# Altium footprint library GRC PCB library.PcbLib: 166 footprints (part 7 of 11)
Each footprint in its own frame and in the unit in brackets; x right, y up, seen from the top. Pads: shape width x height; smd on the part's side, far side on the other; paste and mask are expansions set on the pad; w line width, h text height; cw(c..) or ccw(c..) is an arc to the next point about the centre after c.
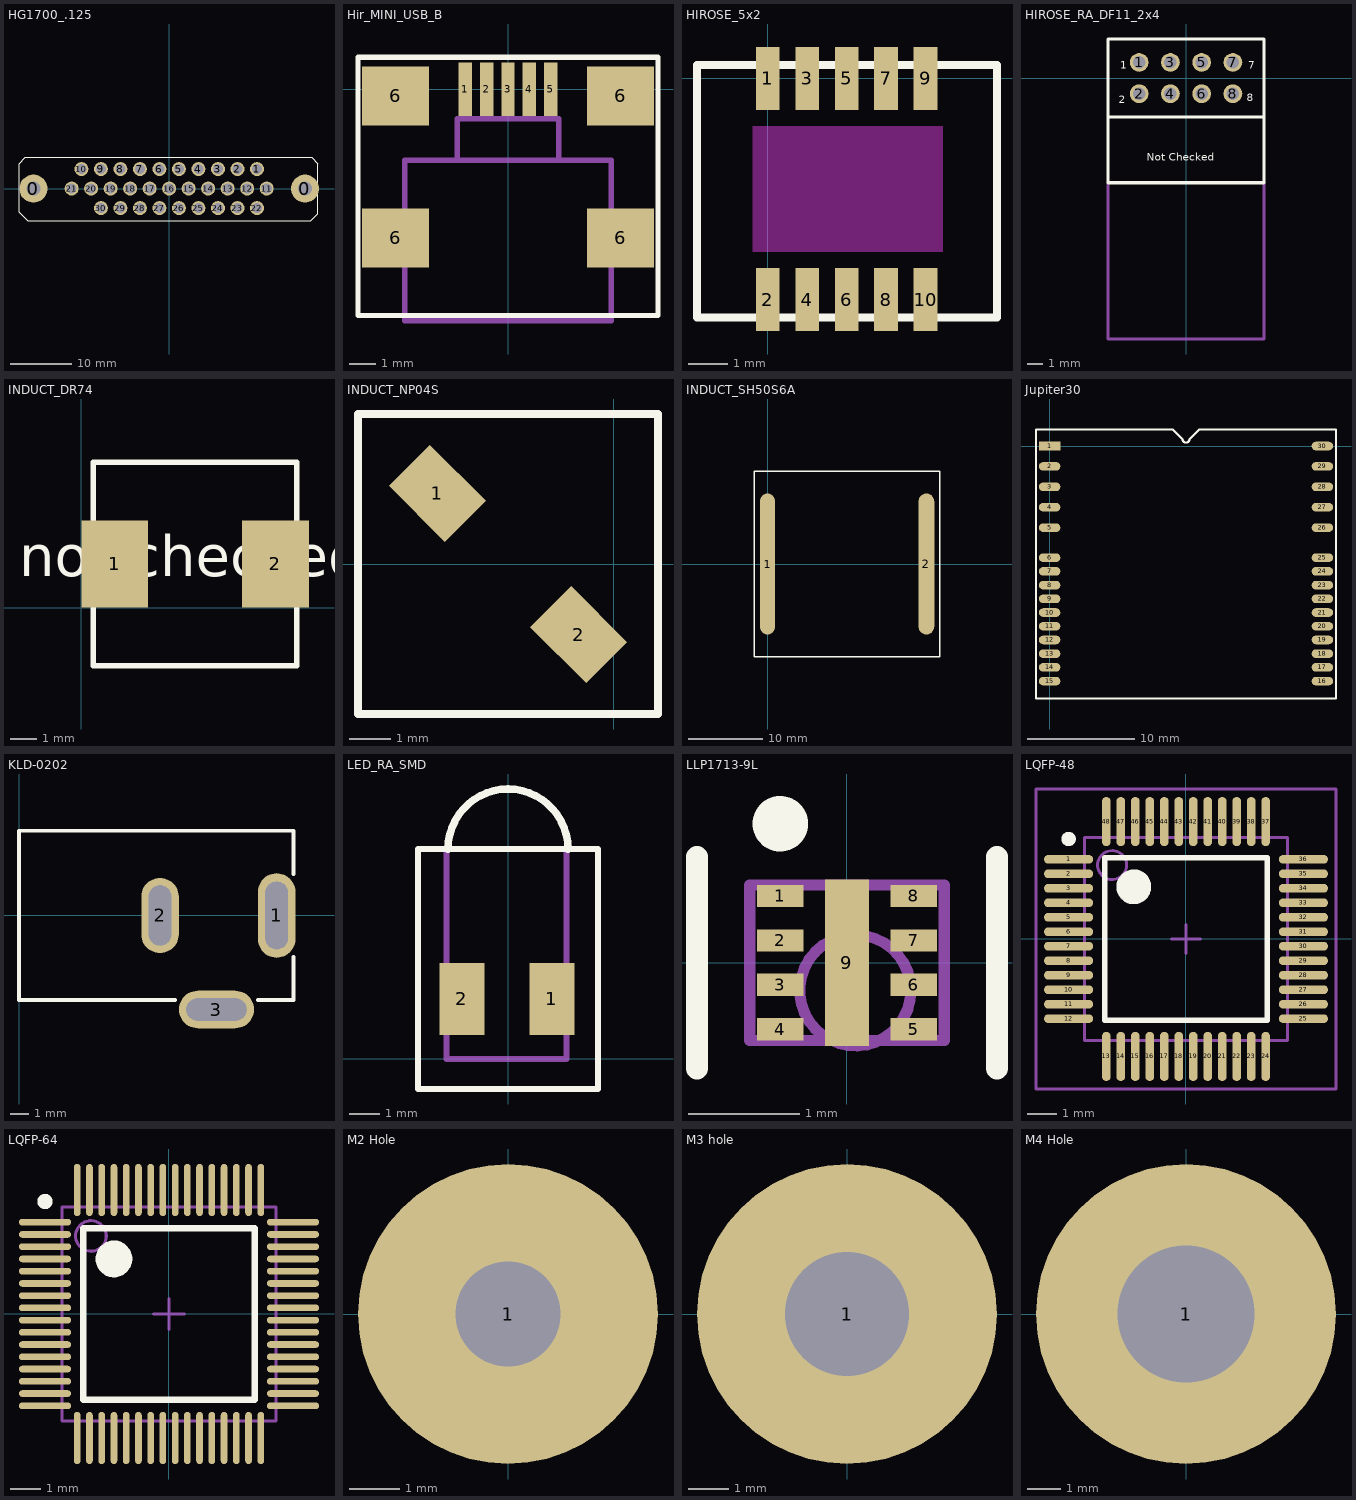
[diagram p6: the footprints below, top view; thin cyan lines are the x and y axes]

## HG1700_.125 [mil] "HoneyWell Connector"
height 219
pads (32):
  round 180 hole 90 unplated: 0(-870,0) 0(870,0)
  round 90 hole 65: 1(562.5,125) 2(437.5,125) 3(312.5,125) 4(187.5,125) 5(62.5,125) 6(-62.5,125) 7(-187.5,125) 8(-312.5,125) 9(-437.5,125) 10(-562.5,125) 11(625,0) 12(500,0) 13(375,0) 14(250,0) 15(125,0) 16(0,0) 17(-125,0) 18(-250,0) 19(-375,0) 20(-500,0) 21(-625,0) 22(562.5,-125) 23(437.5,-125) 24(312.5,-125) 25(187.5,-125) 26(62.5,-125) 27(-62.5,-125) 28(-187.5,-125) 29(-312.5,-125) 30(-437.5,-125)
Top Overlay:
  lines w7.87: -962.5,-150 -907.5,-205 907.5,-205 952.5,-160 952.5,160 912.5,200 -922.5,200 -962.5,160 -962.5,0 -962.5,-150

## Hir_MINI_USB_B [mm] "Mini-USB Receptacle Type B - Metal Shield - SMT - With Positioning Post"
height 3.95
pads (9):
  rect 0.5x2 smd: 1(-1.6,0) 2(-0.8,0) 3(0,0) 4(0.8,0) 5(1.6,0)
  rect 2.5x2.2 smd: 6(-4.2,-5.55) 6(-4.2,-0.25) 6(4.2,-5.55) 6(4.2,-0.25)
Top Overlay:
  lines w0.2: -5.6,-8.45 -5.6,1.2 5.6,1.2 5.6,-8.45 -5.6,-8.45
Mechanical 13:
  lines w0.2: -1.9,-2.65 -1.9,-1.1 1.9,-1.1 1.9,-2.65 ; -3.85,-8.65 -3.85,-2.65 3.85,-2.65 3.85,-8.65 -3.85,-8.65

## HIROSE_5x2 [mm] "Hirose Double Row Straight Pin header SMT 5x2 1mm pitch"
height 4.6
pads (10):
  rect 0.6x1.6 smd: 1(0,0) 2(0,-5.6) 3(1,0) 4(1,-5.6) 5(2,0) 6(2,-5.6) 7(3,0) 8(3,-5.6) 9(4,0) 10(4,-5.6)
Top Overlay:
  lines w0.2: -1.79,-6.056 -1.79,0.344 5.81,0.344 5.81,-6.056 -1.79,-6.056
Keep-Out Layer:
  rectangle: -0.381,-4.4 4.445,-1.2

## HIROSE_RA_DF11_2x4 [mm] "Hirose Right Angle, 2mm, 2x4 pins"
height 5
pads (8):
  round 1.2 hole 0.8: 1(-3,1) 2(-3,-1) 3(-1,1) 4(-1,-1) 5(1,1) 6(1,-1) 7(3,1) 8(3,-1)
Top Overlay:
  lines w0.2: -5,-2.5 -5,0 -5,2.5 5,2.5 ; -5,-2.5 5,-2.5 ; -5,-2.5 -5,-6.7 5,-6.7 5,-2.5 ; 5,-2.5 5,0 5,2.5 ; 5,-2.5 5,2.5
  text "Not Checked" at -2.5,-5.3 h0.5
  text "1" at -4.2,0.6 h0.5
  text "2" at -4.3,-1.6 h0.5
  text "8" at 3.9,-1.5 h0.5
  text "7" at 4,0.6 h0.5
Mechanical 13:
  lines w0.2: -5,-6.7 -5,-16.7 5,-16.7 5,-6.7

## INDUCT_DR74 [mm] "Coiltronics DR74 series SMD inductor"
height 4.35
pads (2):
  rect 2.5x3.25 smd: 1(1.25,1.625) 2(7.25,1.625)
Top Overlay:
  lines w0.2: 0.45,-2.175 8.05,-2.175 8.05,5.425 0.45,5.425 0.45,-2.175
  text "not checked" at -2.325,1.175 h1.52

## INDUCT_NP04S [mm] "Tayo-Yuden Inductor NP04S series"
height 2
pads (2):
  rect 1.9x1.4 smd rot 135: 1(-4.237,1.697) 2(-0.843,-1.697)
Top Overlay:
  lines w0.2: -6.14,3.59 -6.14,-3.6 1.06,-3.6 ; -6.14,3.6 1.05,3.6 ; 1.06,-3.59 1.06,3.6

## INDUCT_SH50S6A [mm] "Talema SH50 Series Package S6A SMD inductor"
height 11.3
pads (2):
  oval 2x19 smd: 1(0,0)
  oval 2.1x19 smd: 2(21.4,0)
Top Overlay:
  lines w0.2: -1.8,-12.5 -1.8,12.5 23.2,12.5 23.2,-12.5 -1.8,-12.5

## Jupiter30 [mm] "GPS SiRF3 receiver"
height 3.3
pads (30):
  rect 2x0.8 smd: 1(0,0)
  oval 2x0.8 smd: 2(0,-1.9) 3(0,-3.8) 4(0,-5.7) 5(0,-7.6) 6(0,-10.4) 7(0,-11.677) 8(0,-12.954) 9(0,-14.231) 10(0,-15.508) 11(0,-16.785) 12(0,-18.062) 13(0,-19.339) 14(0,-20.616) 15(0,-21.893) 16(25.4,-21.893) 17(25.4,-20.616) 18(25.4,-19.339) 19(25.4,-18.062) 20(25.4,-16.785) 21(25.4,-15.508) 22(25.4,-14.231) 23(25.4,-12.954) 24(25.4,-11.677) 25(25.4,-10.4) 26(25.4,-7.6) 27(25.4,-5.7) 28(25.4,-3.8) 29(25.4,-1.9) 30(25.4,0)
Top Overlay:
  lines w0.2: -1.27,-23.5 26.67,-23.5 26.67,1.524 13.905,1.524 13.019,0.639 cw(c12.7,0.639) 12.381,0.639 11.495,1.524 -1.27,1.524 -1.27,-23.5

## KLD-0202 [mm] "DC Power Jack, 2.5mm, KLD Series, PCB Mount"
pads (3):
  oval 2x4.5 hole 1.2 slot 3.6 at 90 deg: 1(13.7,0)
  oval 2x4 hole 1.2 slot 3.2 at 90 deg: 2(7.5,0)
  oval 4x2 hole 1.2 slot 3.2 at 0 deg: 3(10.5,-5)
Top Overlay:
  lines w0.2: 8.3,-4.5 0,-4.5 0,4.5 14.6,4.5 14.6,2.2 ; 12.7,-4.5 14.6,-4.5 14.6,-2.2

## LED_RA_SMD [mm] "LED SMD Righ Angle Lumex SSF-LHX series"
height 5.5
pads (2):
  rect 1.5x2.4 smd: 1(1.46,2) 2(-1.54,2)
Top Overlay:
  lines w0.2: -3,-1 -3,7 3,7 3,-1 -3,-1
  lines w0.254: -2,7 cw(c0,7) 0,9 cw(c0,7) 2,7
Mechanical 13:
  lines w0.2: -2.05,0 -2.05,7 1.95,7 1.95,0 -2.05,0

## LLP1713-9L [mm] "LLP1713-9L"
height 0.6
pads (9):
  rect 0.42x0.2 smd: 1(-0.6,0.6) 2(-0.6,0.2) 3(-0.6,-0.2) 4(-0.6,-0.6) 5(0.6,-0.6) 6(0.6,-0.2) 7(0.6,0.2) 8(0.6,0.6)
  rect 0.4x1.5 smd: 9(0,0)
Top Overlay:
  circle w0.25: c-0.6,1.25 r0.125
  lines w0.2: -1.35,-0.95 -1.35,0.95 ; 1.35,-0.95 1.35,0.95
Mechanical 13:
  circle w0.1: c0.075,-0.25 r0.5
  lines w0.1: -0.875,-0.7 -0.875,0.7 0.875,0.7 0.875,-0.7 -0.875,-0.7
3D body: height 0.6, standoff 0, extent -0.875,-0.7 0.875,0.7

## LQFP-48 [mm] "TSQFP, 48-Leads, Body 9.1x9.1mm (max), Pitch 0.50mm, IPC Medium Density"
height 1.6
pads (48):
  oval 1.7x0.3 smd: 1(-4.05,2.75) 2(-4.05,2.25) 3(-4.05,1.75) 4(-4.05,1.25) 5(-4.05,0.75) 6(-4.05,0.25) 7(-4.05,-0.25) 8(-4.05,-0.75) 9(-4.05,-1.25) 10(-4.05,-1.75) 11(-4.05,-2.25) 12(-4.05,-2.75) 25(4.05,-2.75) 26(4.05,-2.25) 27(4.05,-1.75) 28(4.05,-1.25) 29(4.05,-0.75) 30(4.05,-0.25) 31(4.05,0.25) 32(4.05,0.75) 33(4.05,1.25) 34(4.05,1.75) 35(4.05,2.25) 36(4.05,2.75)
  oval 0.3x1.7 smd: 13(-2.75,-4.05) 14(-2.25,-4.05) 15(-1.75,-4.05) 16(-1.25,-4.05) 17(-0.75,-4.05) 18(-0.25,-4.05) 19(0.25,-4.05) 20(0.75,-4.05) 21(1.25,-4.05) 22(1.75,-4.05) 23(2.25,-4.05) 24(2.75,-4.05) 37(2.75,4.05) 38(2.25,4.05) 39(1.75,4.05) 40(1.25,4.05) 41(0.75,4.05) 42(0.25,4.05) 43(-0.25,4.05) 44(-0.75,4.05) 45(-1.25,4.05) 46(-1.75,4.05) 47(-2.25,4.05) 48(-2.75,4.05)
Top Overlay:
  circle w0.6: c-1.8,1.8 r0.3
  circle w0.25: c-4.05,3.45 r0.125
  lines w0.2: -2.8,-2.8 2.8,-2.8 2.8,2.8 -2.8,2.8 -2.8,-2.8
Mechanical 13:
  circle w0.1: c-2.55,2.55 r0.5
  lines w0.1: -3.5,-3.5 3.5,-3.5 3.5,3.5 -3.5,3.5 -3.5,-3.5
Mechanical 15:
  lines w0.1: -0.5,0 0.5,0 ; 0,-0.5 0,0.5 ; -5.175,-5.175 5.175,-5.175 5.175,5.175 -5.175,5.175 -5.175,-5.175
3D body: height 1.6, standoff 0.05, extent -3.5,-3.5 3.5,3.5

## LQFP-64 [mm] "TSQFP, 64-Leads, Body 9.1x9.1mm (max), Pitch 0.40mm, IPC Medium Density"
height 1.6
pads (64):
  oval 1.7x0.22 smd: 1(-4.05,3) 2(-4.05,2.6) 3(-4.05,2.2) 4(-4.05,1.8) 5(-4.05,1.4) 6(-4.05,1) 7(-4.05,0.6) 8(-4.05,0.2) 9(-4.05,-0.2) 10(-4.05,-0.6) 11(-4.05,-1) 12(-4.05,-1.4) 13(-4.05,-1.8) 14(-4.05,-2.2) 15(-4.05,-2.6) 16(-4.05,-3) 33(4.05,-3) 34(4.05,-2.6) 35(4.05,-2.2) 36(4.05,-1.8) 37(4.05,-1.4) 38(4.05,-1) 39(4.05,-0.6) 40(4.05,-0.2) 41(4.05,0.2) 42(4.05,0.6) 43(4.05,1) 44(4.05,1.4) 45(4.05,1.8) 46(4.05,2.2) 47(4.05,2.6) 48(4.05,3)
  oval 0.22x1.7 smd: 17(-3,-4.05) 18(-2.6,-4.05) 19(-2.2,-4.05) 20(-1.8,-4.05) 21(-1.4,-4.05) 22(-1,-4.05) 23(-0.6,-4.05) 24(-0.2,-4.05) 25(0.2,-4.05) 26(0.6,-4.05) 27(1,-4.05) 28(1.4,-4.05) 29(1.8,-4.05) 30(2.2,-4.05) 31(2.6,-4.05) 32(3,-4.05) 49(3,4.05) 50(2.6,4.05) 51(2.2,4.05) 52(1.8,4.05) 53(1.4,4.05) 54(1,4.05) 55(0.6,4.05) 56(0.2,4.05) 57(-0.2,4.05) 58(-0.6,4.05) 59(-1,4.05) 60(-1.4,4.05) 61(-1.8,4.05) 62(-2.2,4.05) 63(-2.6,4.05) 64(-3,4.05)
Top Overlay:
  circle w0.6: c-1.8,1.8 r0.3
  circle w0.25: c-4.05,3.675 r0.125
  lines w0.2: -2.8,-2.8 2.8,-2.8 2.8,2.8 -2.8,2.8 -2.8,-2.8
Mechanical 13:
  circle w0.1: c-2.55,2.55 r0.5
  lines w0.1: -3.5,-3.5 3.5,-3.5 3.5,3.5 -3.5,3.5 -3.5,-3.5
Mechanical 15:
  lines w0.1: -0.5,0 0.5,0 ; 0,-0.5 0,0.5
3D body: height 1.6, standoff 0.15, extent -3.5,-3.5 3.5,3.5

## M2 Hole [mm]
pads (1):
  round 6 hole 2.1: 1(0,0)

## M3 hole [mm]
pads (1):
  round 7.5 hole 3.1: 1(0,0)

## M4 Hole [mm]
pads (1):
  round 9 hole 4.1: 1(0,0)